# EAGLE library part BK-18650 (library pandasat)
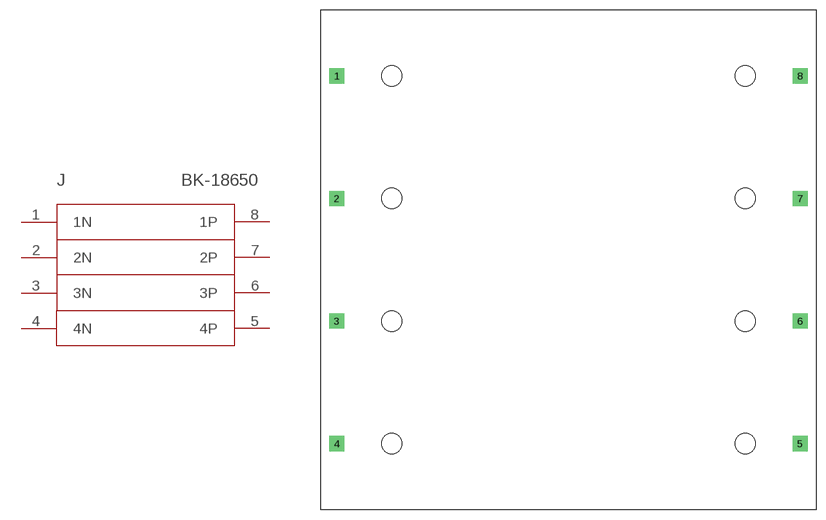
[diagram p3: symbol with the pads of BK-18650; footprint BK-18650]

Designator prefix J

## BK-18650  [BK-18650]
1  1N
2  2N
3  3N
4  4N
5  4P
6  3P
7  2P
8  1P

## Footprint BK-18650 (pad centres in mm)
drill 1.6 square: 1 -36.45,28.95; 2 -36.45,9.65; 3 -36.45,-9.65; 4 -36.45,-28.95; 5 36.45,-28.95; 6 36.45,-9.65; 7 36.45,9.65; 8 36.45,28.95
hole 3.2 at -27.805,28.95
hole 3.2 at -27.805,9.65
hole 3.2 at -27.805,-9.65
hole 3.2 at 27.805,28.95
hole 3.2 at -27.805,-28.95
hole 3.2 at 27.805,-28.95
hole 3.2 at 27.805,9.65
hole 3.2 at 27.805,-9.65